# EAGLE library part SMXMS-03 (library DIP Switch)
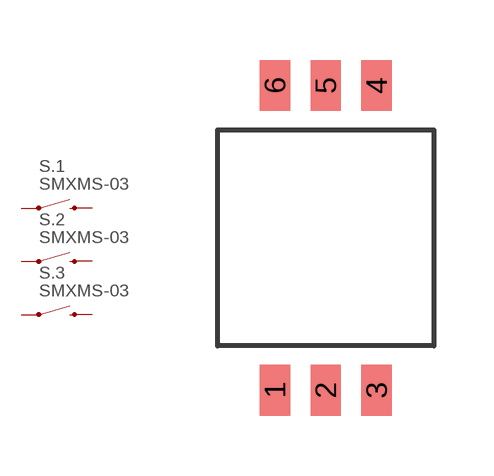
[diagram p0: symbol with the pads of SMXMS-03; footprint SMXMS-03]

Designator prefix S; gates .1=SWITCH .2=SWITCH .3=SWITCH

## SMXMS-03  [SMXMS-03]
1  .1:S1  pas
2  .2:S1  pas
3  .3:S1  pas
4  .3:S2  pas
5  .2:S2  pas
6  .1:S2  pas

## Footprint SMXMS-03 (pad centres in mm)
smd 0.76 x 1.27: 1 -1.27,-3.81; 2 0,-3.81; 3 1.27,-3.81; 4 1.27,3.81; 5 0,3.81; 6 -1.27,3.81